# EAGLE library part DIL8-MSOP8 (library EW_IC_Op_Amps)
DIP8 and MSOP8 Footprint
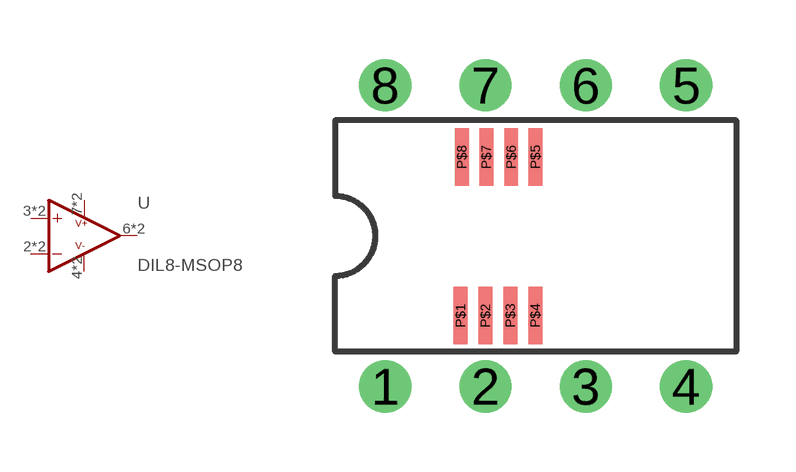
[diagram p35: symbol with the pads of DIL08-MSOP08; footprint DIL08-MSOP08]

Designator prefix U

## DIL8-MSOP8  [DIL08-MSOP08]
1  IO1
2  -IN  in
3  +IN  in
4  V-  pwr
5  IO2
6  OUT  out
7  V+  pwr
8  IO3
P$1  IO1
P$2  -IN  in
P$3  +IN  in
P$4  V-  pwr
P$5  IO2
P$6  OUT  out
P$7  V+  pwr
P$8  IO3

## Footprint DIL08-MSOP08 (pad centres in mm)
Dual In Line Package
drill 0.813 pad 1.27: 1 -3.81,-3.81; 2 -1.27,-3.81; 3 1.27,-3.81; 4 3.81,-3.81; 5 3.81,3.81; 6 1.27,3.81; 7 -1.27,3.81; 8 -3.81,3.81
smd 0.35 x 1.45: P$1 -1.902,-2.015; P$2 -1.272,-2.015; P$3 -0.641,-2.015; P$4 -0.009,-2.015; P$5 -0.006,2; P$6 -0.619,2; P$7 -1.25,2; P$8 -1.87,2